# EAGLE library part DS1307 (library MCE_CircuitosIntegrados)
DS1307 64 x 8, Serial, I2C Real-Time Clock
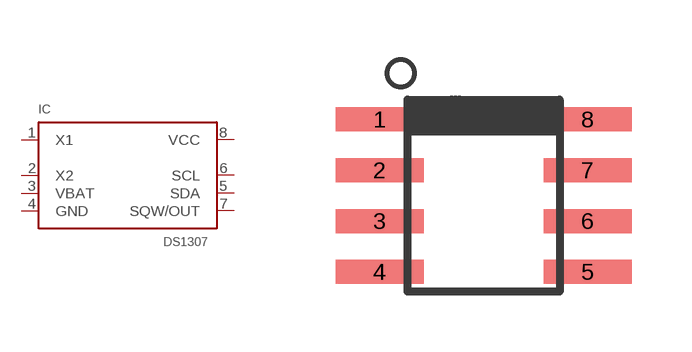
[diagram p22: symbol with the pads of SOIC8; footprint SOIC8]

Designator prefix IC

## DS1307  [SOIC8]
1  X1
2  X2
3  VBAT  pwr
4  GND  pwr
5  SDA
6  SCL  in
7  SQW/OUT  out
8  VCC  pwr

## Footprint SOIC8 (pad centres in mm)
Small Outline Narrow Plastic Gull Wing 150-mil body, package type SN
smd 2.2 x 0.6: 1 -2.6,1.905; 2 -2.6,0.635; 3 -2.6,-0.635; 4 -2.6,-1.905; 5 2.6,-1.905; 6 2.6,-0.635; 7 2.6,0.635; 8 2.6,1.905